# Altium footprint library Connector_PinHeader_2.00mm.PcbLib: 278 footprints (part 5 of 18)
Each footprint in its own frame and in the unit in brackets; x right, y up, seen from the top. Pads: shape width x height; smd on the part's side, far side on the other; paste and mask are expansions set on the pad; w line width, h text height; cw(c..) or ccw(c..) is an arc to the next point about the centre after c.
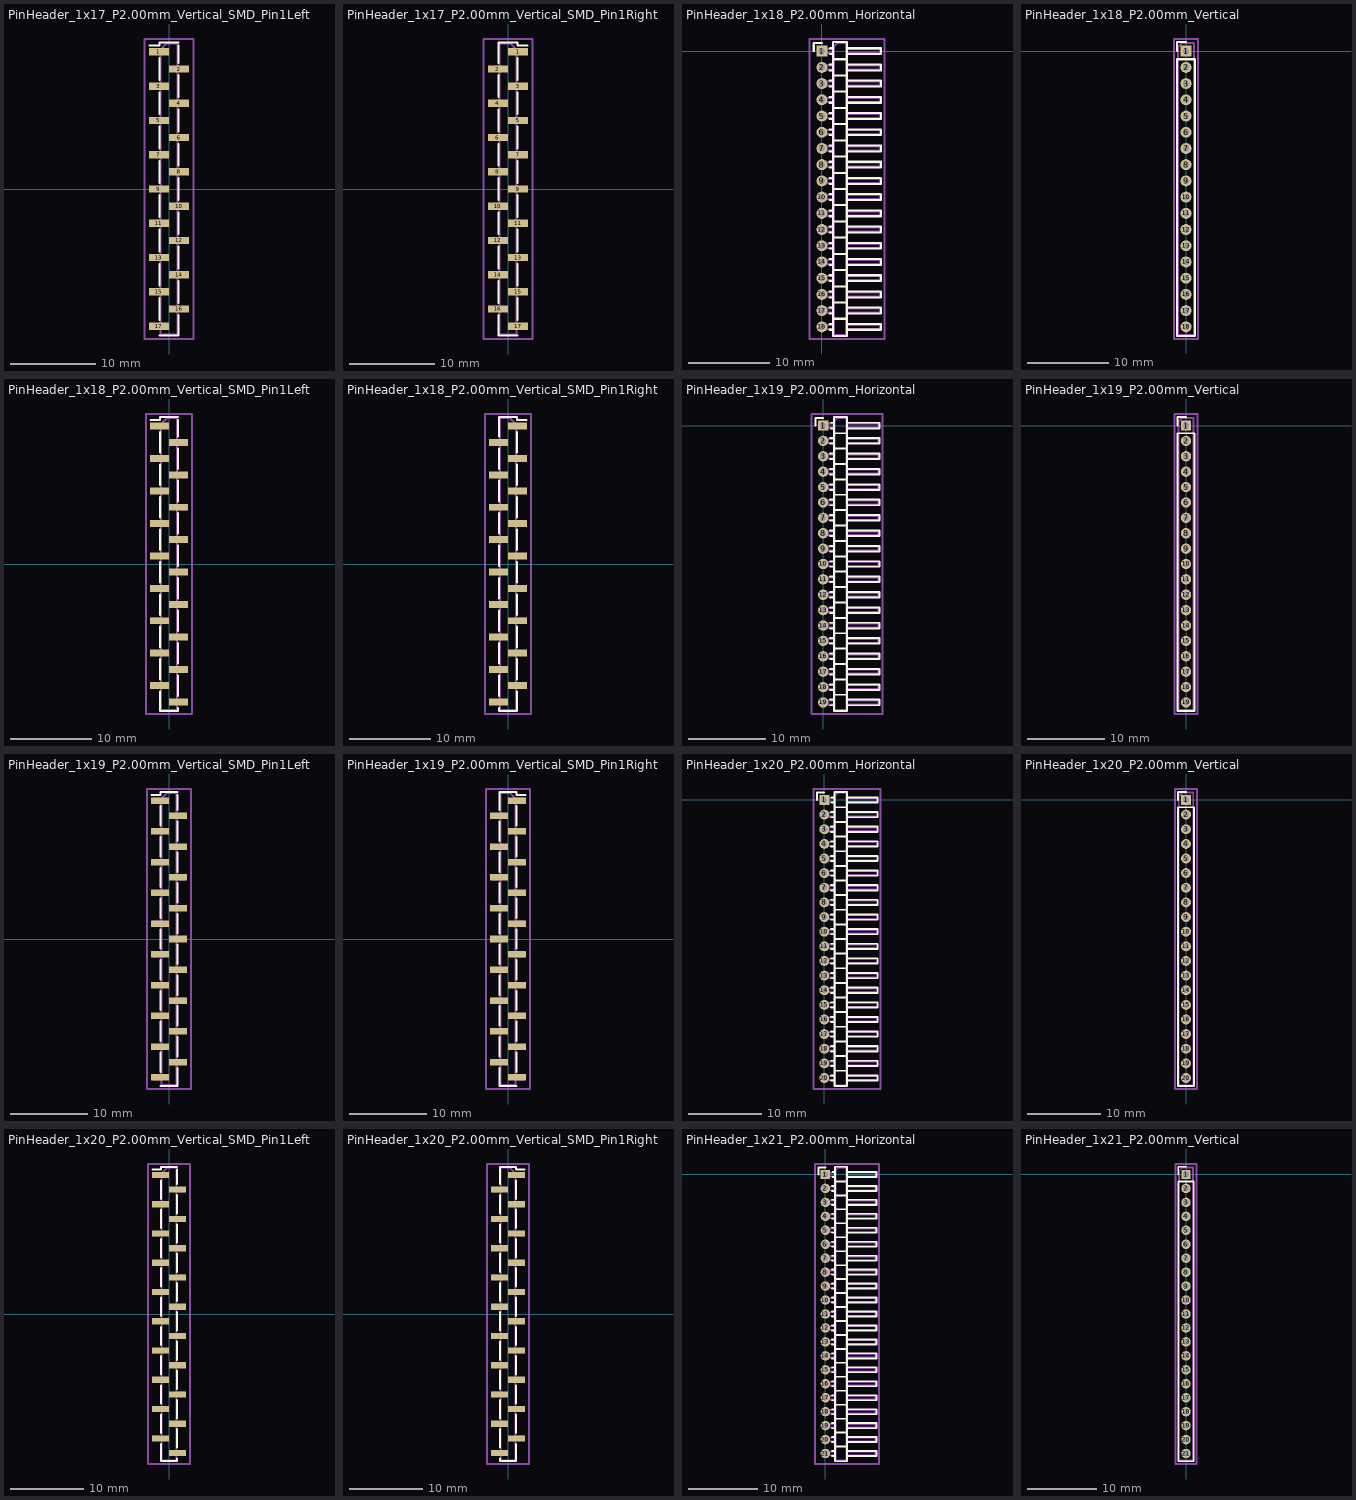
[diagram p4: the footprints below, top view; thin cyan lines are the x and y axes]

## PinHeader_1x17_P2.00mm_Vertical_SMD_Pin1Left [mm]
pads (17):
  rect 2.35x0.85 smd: 1(-1.175,16) 2(1.175,14) 3(-1.175,12) 4(1.175,10) 5(-1.175,8) 6(1.175,6) 7(-1.175,4) 8(1.175,2) 9(-1.175,0) 10(1.175,-2) 11(-1.175,-4) 12(1.175,-6) 13(-1.175,-8) 14(1.175,-10) 15(-1.175,-12) 16(1.175,-14) 17(-1.175,-16)
F.SilkS:
  lines w0.254: -2.29,16.735 -1.11,16.735 -1.11,17.11 1.11,17.11 ; -1.11,-17.11 1.11,-17.11 ; -1.11,-15.265 -1.11,-12.735 ; -1.11,-11.265 -1.11,-8.735 ; -1.11,-7.265 -1.11,-4.735 ; -1.11,-3.265 -1.11,-0.735 ; -1.11,0.735 -1.11,3.265 ; -1.11,4.735 -1.11,7.265 ; -1.11,8.735 -1.11,11.265 ; -1.11,12.735 -1.11,15.265 ; 1.11,-16.735 1.11,-17.11 ; 1.11,-14.735 1.11,-17.11 ; 1.11,-13.265 1.11,-10.735 ; 1.11,-9.265 1.11,-6.735 ; 1.11,-5.265 1.11,-2.735 ; 1.11,-1.265 1.11,1.265 ; 1.11,2.735 1.11,5.265 ; 1.11,6.735 1.11,9.265 ; 1.11,10.735 1.11,13.265 ; 1.11,14.735 1.11,16.735
Top Assembly:
  lines w0.254: -1,-16.25 -2.1,-16.25 -2.1,-15.75 -1,-15.75 ; -1,-12.25 -2.1,-12.25 -2.1,-11.75 -1,-11.75 ; -1,-8.25 -2.1,-8.25 -2.1,-7.75 -1,-7.75 ; -1,-4.25 -2.1,-4.25 -2.1,-3.75 -1,-3.75 ; -1,-0.25 -2.1,-0.25 -2.1,0.25 -1,0.25 ; -1,3.75 -2.1,3.75 -2.1,4.25 -1,4.25 ; -1,7.75 -2.1,7.75 -2.1,8.25 -1,8.25 ; -1,11.75 -2.1,11.75 -2.1,12.25 -1,12.25 ; -1,15.75 -2.1,15.75 -2.1,16.25 -1,16.25 ; 1,-14.25 2.1,-14.25 2.1,-13.75 1,-13.75 ; 1,-10.25 2.1,-10.25 2.1,-9.75 1,-9.75 ; 1,-6.25 2.1,-6.25 2.1,-5.75 1,-5.75 ; 1,-2.25 2.1,-2.25 2.1,-1.75 1,-1.75 ; 1,1.75 2.1,1.75 2.1,2.25 1,2.25 ; 1,5.75 2.1,5.75 2.1,6.25 1,6.25 ; 1,9.75 2.1,9.75 2.1,10.25 1,10.25 ; 1,13.75 2.1,13.75 2.1,14.25 1,14.25 ; -1,16.25 -1,-17 1,-17 1,17 -0.25,17 -1,16.25
  text "'.Designator'" at 0.84,-4.047 h1
Top Courtyard:
  lines w0.254: -2.85,-17.5 2.85,-17.5 2.85,17.5 -2.85,17.5 -2.85,-17.5
Top Designator:
  text ".Designator" at -7.618,-0.508 h1.52

## PinHeader_1x17_P2.00mm_Vertical_SMD_Pin1Right [mm]
pads (17):
  rect 2.35x0.85 smd: 1(1.175,16) 2(-1.175,14) 3(1.175,12) 4(-1.175,10) 5(1.175,8) 6(-1.175,6) 7(1.175,4) 8(-1.175,2) 9(1.175,0) 10(-1.175,-2) 11(1.175,-4) 12(-1.175,-6) 13(1.175,-8) 14(-1.175,-10) 15(1.175,-12) 16(-1.175,-14) 17(1.175,-16)
F.SilkS:
  lines w0.254: -1.11,-16.735 -1.11,-17.11 ; -1.11,-14.735 -1.11,-17.11 ; -1.11,-13.265 -1.11,-10.735 ; -1.11,-9.265 -1.11,-6.735 ; -1.11,-5.265 -1.11,-2.735 ; -1.11,-1.265 -1.11,1.265 ; -1.11,2.735 -1.11,5.265 ; -1.11,6.735 -1.11,9.265 ; -1.11,10.735 -1.11,13.265 ; -1.11,16.735 -1.11,14.735 -1.11,17.11 1.11,17.11 1.11,16.735 2.29,16.735 ; 1.11,-17.11 -1.11,-17.11 ; 1.11,-15.265 1.11,-12.735 ; 1.11,-11.265 1.11,-8.735 ; 1.11,-7.265 1.11,-4.735 ; 1.11,-3.265 1.11,-0.735 ; 1.11,0.735 1.11,3.265 ; 1.11,4.735 1.11,7.265 ; 1.11,8.735 1.11,11.265 ; 1.11,12.735 1.11,15.265
Top Assembly:
  lines w0.254: -1,-14.25 -2.1,-14.25 -2.1,-13.75 -1,-13.75 ; -1,-10.25 -2.1,-10.25 -2.1,-9.75 -1,-9.75 ; -1,-6.25 -2.1,-6.25 -2.1,-5.75 -1,-5.75 ; -1,-2.25 -2.1,-2.25 -2.1,-1.75 -1,-1.75 ; -1,1.75 -2.1,1.75 -2.1,2.25 -1,2.25 ; -1,5.75 -2.1,5.75 -2.1,6.25 -1,6.25 ; -1,9.75 -2.1,9.75 -2.1,10.25 -1,10.25 ; -1,13.75 -2.1,13.75 -2.1,14.25 -1,14.25 ; 1,-16.25 2.1,-16.25 2.1,-15.75 1,-15.75 ; 1,-12.25 2.1,-12.25 2.1,-11.75 1,-11.75 ; 1,-8.25 2.1,-8.25 2.1,-7.75 1,-7.75 ; 1,-4.25 2.1,-4.25 2.1,-3.75 1,-3.75 ; 1,-0.25 2.1,-0.25 2.1,0.25 1,0.25 ; 1,3.75 2.1,3.75 2.1,4.25 1,4.25 ; 1,7.75 2.1,7.75 2.1,8.25 1,8.25 ; 1,11.75 2.1,11.75 2.1,12.25 1,12.25 ; 1,15.75 2.1,15.75 2.1,16.25 1,16.25 ; 1,16.25 1,-17 -1,-17 -1,17 0.25,17 1,16.25
  text "'.Designator'" at 0.84,-4.047 h1
Top Courtyard:
  lines w0.254: -2.85,-17.5 2.85,-17.5 2.85,17.5 -2.85,17.5 -2.85,-17.5
Top Designator:
  text ".Designator" at -7.618,-0.508 h1.52

## PinHeader_1x18_P2.00mm_Horizontal [mm]
pads (18):
  rect 1.35x1.35 hole 0.8: 1(0,0)
  round 1.35 hole 0.8: 2(0,-2) 3(0,-4) 4(0,-6) 5(0,-8) 6(0,-10) 7(0,-12) 8(0,-14) 9(0,-16) 10(0,-18) 11(0,-20) 12(0,-22) 13(0,-24) 14(0,-26) 15(0,-28) 16(0,-30) 17(0,-32) 18(0,-34)
F.SilkS:
  lines w0.254: -1,0 -1,1 0,1 ; 0.917,-34.36 1.39,-34.36 ; 0.917,-33.64 1.39,-33.64 ; 0.917,-32.36 1.39,-32.36 ; 0.917,-31.64 1.39,-31.64 ; 0.917,-30.36 1.39,-30.36 ; 0.917,-29.64 1.39,-29.64 ; 0.917,-28.36 1.39,-28.36 ; 0.917,-27.64 1.39,-27.64 ; 0.917,-26.36 1.39,-26.36 ; 0.917,-25.64 1.39,-25.64 ; 0.917,-24.36 1.39,-24.36 ; 0.917,-23.64 1.39,-23.64 ; 0.917,-22.36 1.39,-22.36 ; 0.917,-21.64 1.39,-21.64 ; 0.917,-20.36 1.39,-20.36 ; 0.917,-19.64 1.39,-19.64 ; 0.917,-18.36 1.39,-18.36 ; 0.917,-17.64 1.39,-17.64 ; 0.917,-16.36 1.39,-16.36 ; 0.917,-15.64 1.39,-15.64 ; 0.917,-14.36 1.39,-14.36 ; 0.917,-13.64 1.39,-13.64 ; 0.917,-12.36 1.39,-12.36 ; 0.917,-11.64 1.39,-11.64 ; 0.917,-10.36 1.39,-10.36 ; 0.917,-9.64 1.39,-9.64 ; 0.917,-8.36 1.39,-8.36 ; 0.917,-7.64 1.39,-7.64 ; 0.917,-6.36 1.39,-6.36 ; 0.917,-5.64 1.39,-5.64 ; 0.917,-4.36 1.39,-4.36 ; 0.917,-3.64 1.39,-3.64 ; 0.917,-2.36 1.39,-2.36 ; 0.917,-1.64 1.39,-1.64 ; 0.985,-0.36 1.39,-0.36 ; 0.985,0.36 1.39,0.36 ; 1.39,-33 3.11,-33 ; 1.39,-31 3.11,-31 ; 1.39,-29 3.11,-29 ; 1.39,-27 3.11,-27 ; 1.39,-25 3.11,-25 ; 1.39,-23 3.11,-23 ; 1.39,-21 3.11,-21 ; 1.39,-19 3.11,-19 ; 1.39,-17 3.11,-17 ; 1.39,-15 3.11,-15 ; 1.39,-13 3.11,-13 ; 1.39,-11 3.11,-11 ; 1.39,-9 3.11,-9 ; 1.39,-7 3.11,-7 ; 1.39,-5 3.11,-5 ; 1.39,-3 3.11,-3 ; 1.39,-1 3.11,-1 ; 3.11,-34.36 7.31,-34.36 7.31,-33.64 3.11,-33.64 ; 3.11,-32.36 7.31,-32.36 7.31,-31.64 3.11,-31.64 ; 3.11,-30.36 7.31,-30.36 7.31,-29.64 3.11,-29.64 ; 3.11,-28.36 7.31,-28.36 7.31,-27.64 3.11,-27.64 ; 3.11,-26.36 7.31,-26.36 7.31,-25.64 3.11,-25.64 ; 3.11,-24.36 7.31,-24.36 7.31,-23.64 3.11,-23.64 ; 3.11,-22.36 7.31,-22.36 7.31,-21.64 3.11,-21.64 ; 3.11,-20.36 7.31,-20.36 7.31,-19.64 3.11,-19.64 ; 3.11,-18.36 7.31,-18.36 7.31,-17.64 3.11,-17.64 ; 3.11,-16.36 7.31,-16.36 7.31,-15.64 3.11,-15.64 ; 3.11,-14.36 7.31,-14.36 7.31,-13.64 3.11,-13.64 ; 3.11,-12.36 7.31,-12.36 7.31,-11.64 3.11,-11.64 ; 3.11,-10.36 7.31,-10.36 7.31,-9.64 3.11,-9.64 ; 3.11,-8.36 7.31,-8.36 7.31,-7.64 3.11,-7.64 ; 3.11,-6.36 7.31,-6.36 7.31,-5.64 3.11,-5.64 ; 3.11,-4.36 7.31,-4.36 7.31,-3.64 3.11,-3.64 ; 3.11,-2.36 7.31,-2.36 7.31,-1.64 3.11,-1.64 ; 1.39,-35.11 3.11,-35.11 3.11,1.11 1.39,1.11 1.39,-35.11 ; 3.11,-0.36 7.31,-0.36 7.31,0.36 3.11,0.36 3.11,-0.36
Top Assembly:
  lines w0.254: 1.5,-34.25 -0.25,-34.25 -0.25,-33.75 1.5,-33.75 ; 1.5,-32.25 -0.25,-32.25 -0.25,-31.75 1.5,-31.75 ; 1.5,-30.25 -0.25,-30.25 -0.25,-29.75 1.5,-29.75 ; 1.5,-28.25 -0.25,-28.25 -0.25,-27.75 1.5,-27.75 ; 1.5,-26.25 -0.25,-26.25 -0.25,-25.75 1.5,-25.75 ; 1.5,-24.25 -0.25,-24.25 -0.25,-23.75 1.5,-23.75 ; 1.5,-22.25 -0.25,-22.25 -0.25,-21.75 1.5,-21.75 ; 1.5,-20.25 -0.25,-20.25 -0.25,-19.75 1.5,-19.75 ; 1.5,-18.25 -0.25,-18.25 -0.25,-17.75 1.5,-17.75 ; 1.5,-16.25 -0.25,-16.25 -0.25,-15.75 1.5,-15.75 ; 1.5,-14.25 -0.25,-14.25 -0.25,-13.75 1.5,-13.75 ; 1.5,-12.25 -0.25,-12.25 -0.25,-11.75 1.5,-11.75 ; 1.5,-10.25 -0.25,-10.25 -0.25,-9.75 1.5,-9.75 ; 1.5,-8.25 -0.25,-8.25 -0.25,-7.75 1.5,-7.75 ; 1.5,-6.25 -0.25,-6.25 -0.25,-5.75 1.5,-5.75 ; 1.5,-4.25 -0.25,-4.25 -0.25,-3.75 1.5,-3.75 ; 1.5,-2.25 -0.25,-2.25 -0.25,-1.75 1.5,-1.75 ; 1.5,-0.25 -0.25,-0.25 -0.25,0.25 1.5,0.25 ; 3,-34.25 7.2,-34.25 7.2,-33.75 3,-33.75 ; 3,-32.25 7.2,-32.25 7.2,-31.75 3,-31.75 ; 3,-30.25 7.2,-30.25 7.2,-29.75 3,-29.75 ; 3,-28.25 7.2,-28.25 7.2,-27.75 3,-27.75 ; 3,-26.25 7.2,-26.25 7.2,-25.75 3,-25.75 ; 3,-24.25 7.2,-24.25 7.2,-23.75 3,-23.75 ; 3,-22.25 7.2,-22.25 7.2,-21.75 3,-21.75 ; 3,-20.25 7.2,-20.25 7.2,-19.75 3,-19.75 ; 3,-18.25 7.2,-18.25 7.2,-17.75 3,-17.75 ; 3,-16.25 7.2,-16.25 7.2,-15.75 3,-15.75 ; 3,-14.25 7.2,-14.25 7.2,-13.75 3,-13.75 ; 3,-12.25 7.2,-12.25 7.2,-11.75 3,-11.75 ; 3,-10.25 7.2,-10.25 7.2,-9.75 3,-9.75 ; 3,-8.25 7.2,-8.25 7.2,-7.75 3,-7.75 ; 3,-6.25 7.2,-6.25 7.2,-5.75 3,-5.75 ; 3,-4.25 7.2,-4.25 7.2,-3.75 3,-3.75 ; 3,-2.25 7.2,-2.25 7.2,-1.75 3,-1.75 ; 3,-0.25 7.2,-0.25 7.2,0.25 3,0.25 ; 1.5,-35 3,-35 3,1 1.875,1 1.5,0.625 1.5,-35
  text "'.Designator'" at 3.006,-20.642 h0.9
Top Courtyard:
  lines w0.254: -1.5,-35.5 7.7,-35.5 7.7,1.5 -1.5,1.5 -1.5,-35.5
Top Designator:
  text ".Designator" at -4.518,-17.508 h1.52

## PinHeader_1x18_P2.00mm_Vertical [mm]
pads (18):
  rect 1.35x1.35 hole 0.8: 1(0,0)
  round 1.35 hole 0.8: 2(0,-2) 3(0,-4) 4(0,-6) 5(0,-8) 6(0,-10) 7(0,-12) 8(0,-14) 9(0,-16) 10(0,-18) 11(0,-20) 12(0,-22) 13(0,-24) 14(0,-26) 15(0,-28) 16(0,-30) 17(0,-32) 18(0,-34)
F.SilkS:
  lines w0.254: -1.11,0 -1.11,1.11 0,1.11 ; -1.11,-35.11 1.11,-35.11 1.11,-1 -1.11,-1 -1.11,-35.11
Top Assembly:
  lines w0.254: -1,-35 1,-35 1,1 -0.5,1 -1,0.5 -1,-35
  text "'.Designator'" at 0.84,-21.047 h1
Top Courtyard:
  lines w0.254: -1.5,-35.5 1.5,-35.5 1.5,1.5 -1.5,1.5 -1.5,-35.5
Top Designator:
  text ".Designator" at -7.618,-17.508 h1.52

## PinHeader_1x18_P2.00mm_Vertical_SMD_Pin1Left [mm]
pads (18):
  rect 2.35x0.85 smd: 1(-1.175,17) 2(1.175,15) 3(-1.175,13) 4(1.175,11) 5(-1.175,9) 6(1.175,7) 7(-1.175,5) 8(1.175,3) 9(-1.175,1) 10(1.175,-1) 11(-1.175,-3) 12(1.175,-5) 13(-1.175,-7) 14(1.175,-9) 15(-1.175,-11) 16(1.175,-13) 17(-1.175,-15) 18(1.175,-17)
F.SilkS:
  lines w0.254: -2.29,17.735 -1.11,17.735 -1.11,18.11 1.11,18.11 ; -1.11,-15.735 -1.11,-18.11 1.11,-18.11 1.11,-17.735 ; -1.11,-14.265 -1.11,-11.735 ; -1.11,-10.265 -1.11,-7.735 ; -1.11,-6.265 -1.11,-3.735 ; -1.11,-2.265 -1.11,0.265 ; -1.11,1.735 -1.11,4.265 ; -1.11,5.735 -1.11,8.265 ; -1.11,9.735 -1.11,12.265 ; -1.11,13.735 -1.11,16.265 ; 1.11,-16.265 1.11,-13.735 ; 1.11,-12.265 1.11,-9.735 ; 1.11,-8.265 1.11,-5.735 ; 1.11,-4.265 1.11,-1.735 ; 1.11,-0.265 1.11,2.265 ; 1.11,3.735 1.11,6.265 ; 1.11,7.735 1.11,10.265 ; 1.11,11.735 1.11,14.265 ; 1.11,15.735 1.11,17.735
Top Assembly:
  lines w0.254: -1,-15.25 -2.1,-15.25 -2.1,-14.75 -1,-14.75 ; -1,-11.25 -2.1,-11.25 -2.1,-10.75 -1,-10.75 ; -1,-7.25 -2.1,-7.25 -2.1,-6.75 -1,-6.75 ; -1,-3.25 -2.1,-3.25 -2.1,-2.75 -1,-2.75 ; -1,0.75 -2.1,0.75 -2.1,1.25 -1,1.25 ; -1,4.75 -2.1,4.75 -2.1,5.25 -1,5.25 ; -1,8.75 -2.1,8.75 -2.1,9.25 -1,9.25 ; -1,12.75 -2.1,12.75 -2.1,13.25 -1,13.25 ; -1,16.75 -2.1,16.75 -2.1,17.25 -1,17.25 ; 1,-17.25 2.1,-17.25 2.1,-16.75 1,-16.75 ; 1,-13.25 2.1,-13.25 2.1,-12.75 1,-12.75 ; 1,-9.25 2.1,-9.25 2.1,-8.75 1,-8.75 ; 1,-5.25 2.1,-5.25 2.1,-4.75 1,-4.75 ; 1,-1.25 2.1,-1.25 2.1,-0.75 1,-0.75 ; 1,2.75 2.1,2.75 2.1,3.25 1,3.25 ; 1,6.75 2.1,6.75 2.1,7.25 1,7.25 ; 1,10.75 2.1,10.75 2.1,11.25 1,11.25 ; 1,14.75 2.1,14.75 2.1,15.25 1,15.25 ; -1,17.25 -1,-18 1,-18 1,18 -0.25,18 -1,17.25
  text "'.Designator'" at 0.84,-4.047 h1
Top Courtyard:
  lines w0.254: -2.85,-18.5 2.85,-18.5 2.85,18.5 -2.85,18.5 -2.85,-18.5
Top Designator:
  text ".Designator" at -7.618,-0.508 h1.52

## PinHeader_1x18_P2.00mm_Vertical_SMD_Pin1Right [mm]
pads (18):
  rect 2.35x0.85 smd: 1(1.175,17) 2(-1.175,15) 3(1.175,13) 4(-1.175,11) 5(1.175,9) 6(-1.175,7) 7(1.175,5) 8(-1.175,3) 9(1.175,1) 10(-1.175,-1) 11(1.175,-3) 12(-1.175,-5) 13(1.175,-7) 14(-1.175,-9) 15(1.175,-11) 16(-1.175,-13) 17(1.175,-15) 18(-1.175,-17)
F.SilkS:
  lines w0.254: -1.11,-17.735 -1.11,-18.11 1.11,-18.11 1.11,-15.735 ; -1.11,-16.265 -1.11,-13.735 ; -1.11,-12.265 -1.11,-9.735 ; -1.11,-8.265 -1.11,-5.735 ; -1.11,-4.265 -1.11,-1.735 ; -1.11,-0.265 -1.11,2.265 ; -1.11,3.735 -1.11,6.265 ; -1.11,7.735 -1.11,10.265 ; -1.11,11.735 -1.11,14.265 ; -1.11,17.735 -1.11,15.735 -1.11,18.11 1.11,18.11 1.11,17.735 2.29,17.735 ; 1.11,-14.265 1.11,-11.735 ; 1.11,-10.265 1.11,-7.735 ; 1.11,-6.265 1.11,-3.735 ; 1.11,-2.265 1.11,0.265 ; 1.11,1.735 1.11,4.265 ; 1.11,5.735 1.11,8.265 ; 1.11,9.735 1.11,12.265 ; 1.11,13.735 1.11,16.265
Top Assembly:
  lines w0.254: -1,-17.25 -2.1,-17.25 -2.1,-16.75 -1,-16.75 ; -1,-13.25 -2.1,-13.25 -2.1,-12.75 -1,-12.75 ; -1,-9.25 -2.1,-9.25 -2.1,-8.75 -1,-8.75 ; -1,-5.25 -2.1,-5.25 -2.1,-4.75 -1,-4.75 ; -1,-1.25 -2.1,-1.25 -2.1,-0.75 -1,-0.75 ; -1,2.75 -2.1,2.75 -2.1,3.25 -1,3.25 ; -1,6.75 -2.1,6.75 -2.1,7.25 -1,7.25 ; -1,10.75 -2.1,10.75 -2.1,11.25 -1,11.25 ; -1,14.75 -2.1,14.75 -2.1,15.25 -1,15.25 ; 1,-15.25 2.1,-15.25 2.1,-14.75 1,-14.75 ; 1,-11.25 2.1,-11.25 2.1,-10.75 1,-10.75 ; 1,-7.25 2.1,-7.25 2.1,-6.75 1,-6.75 ; 1,-3.25 2.1,-3.25 2.1,-2.75 1,-2.75 ; 1,0.75 2.1,0.75 2.1,1.25 1,1.25 ; 1,4.75 2.1,4.75 2.1,5.25 1,5.25 ; 1,8.75 2.1,8.75 2.1,9.25 1,9.25 ; 1,12.75 2.1,12.75 2.1,13.25 1,13.25 ; 1,16.75 2.1,16.75 2.1,17.25 1,17.25 ; 1,17.25 1,-18 -1,-18 -1,18 0.25,18 1,17.25
  text "'.Designator'" at 0.84,-4.047 h1
Top Courtyard:
  lines w0.254: -2.85,-18.5 2.85,-18.5 2.85,18.5 -2.85,18.5 -2.85,-18.5
Top Designator:
  text ".Designator" at -7.618,-0.508 h1.52

## PinHeader_1x19_P2.00mm_Horizontal [mm]
pads (19):
  rect 1.35x1.35 hole 0.8: 1(0,0)
  round 1.35 hole 0.8: 2(0,-2) 3(0,-4) 4(0,-6) 5(0,-8) 6(0,-10) 7(0,-12) 8(0,-14) 9(0,-16) 10(0,-18) 11(0,-20) 12(0,-22) 13(0,-24) 14(0,-26) 15(0,-28) 16(0,-30) 17(0,-32) 18(0,-34) 19(0,-36)
F.SilkS:
  lines w0.254: -1,0 -1,1 0,1 ; 0.917,-36.36 1.39,-36.36 ; 0.917,-35.64 1.39,-35.64 ; 0.917,-34.36 1.39,-34.36 ; 0.917,-33.64 1.39,-33.64 ; 0.917,-32.36 1.39,-32.36 ; 0.917,-31.64 1.39,-31.64 ; 0.917,-30.36 1.39,-30.36 ; 0.917,-29.64 1.39,-29.64 ; 0.917,-28.36 1.39,-28.36 ; 0.917,-27.64 1.39,-27.64 ; 0.917,-26.36 1.39,-26.36 ; 0.917,-25.64 1.39,-25.64 ; 0.917,-24.36 1.39,-24.36 ; 0.917,-23.64 1.39,-23.64 ; 0.917,-22.36 1.39,-22.36 ; 0.917,-21.64 1.39,-21.64 ; 0.917,-20.36 1.39,-20.36 ; 0.917,-19.64 1.39,-19.64 ; 0.917,-18.36 1.39,-18.36 ; 0.917,-17.64 1.39,-17.64 ; 0.917,-16.36 1.39,-16.36 ; 0.917,-15.64 1.39,-15.64 ; 0.917,-14.36 1.39,-14.36 ; 0.917,-13.64 1.39,-13.64 ; 0.917,-12.36 1.39,-12.36 ; 0.917,-11.64 1.39,-11.64 ; 0.917,-10.36 1.39,-10.36 ; 0.917,-9.64 1.39,-9.64 ; 0.917,-8.36 1.39,-8.36 ; 0.917,-7.64 1.39,-7.64 ; 0.917,-6.36 1.39,-6.36 ; 0.917,-5.64 1.39,-5.64 ; 0.917,-4.36 1.39,-4.36 ; 0.917,-3.64 1.39,-3.64 ; 0.917,-2.36 1.39,-2.36 ; 0.917,-1.64 1.39,-1.64 ; 0.985,-0.36 1.39,-0.36 ; 0.985,0.36 1.39,0.36 ; 1.39,-35 3.11,-35 ; 1.39,-33 3.11,-33 ; 1.39,-31 3.11,-31 ; 1.39,-29 3.11,-29 ; 1.39,-27 3.11,-27 ; 1.39,-25 3.11,-25 ; 1.39,-23 3.11,-23 ; 1.39,-21 3.11,-21 ; 1.39,-19 3.11,-19 ; 1.39,-17 3.11,-17 ; 1.39,-15 3.11,-15 ; 1.39,-13 3.11,-13 ; 1.39,-11 3.11,-11 ; 1.39,-9 3.11,-9 ; 1.39,-7 3.11,-7 ; 1.39,-5 3.11,-5 ; 1.39,-3 3.11,-3 ; 1.39,-1 3.11,-1 ; 3.11,-36.36 7.31,-36.36 7.31,-35.64 3.11,-35.64 ; 3.11,-34.36 7.31,-34.36 7.31,-33.64 3.11,-33.64 ; 3.11,-32.36 7.31,-32.36 7.31,-31.64 3.11,-31.64 ; 3.11,-30.36 7.31,-30.36 7.31,-29.64 3.11,-29.64 ; 3.11,-28.36 7.31,-28.36 7.31,-27.64 3.11,-27.64 ; 3.11,-26.36 7.31,-26.36 7.31,-25.64 3.11,-25.64 ; 3.11,-24.36 7.31,-24.36 7.31,-23.64 3.11,-23.64 ; 3.11,-22.36 7.31,-22.36 7.31,-21.64 3.11,-21.64 ; 3.11,-20.36 7.31,-20.36 7.31,-19.64 3.11,-19.64 ; 3.11,-18.36 7.31,-18.36 7.31,-17.64 3.11,-17.64 ; 3.11,-16.36 7.31,-16.36 7.31,-15.64 3.11,-15.64 ; 3.11,-14.36 7.31,-14.36 7.31,-13.64 3.11,-13.64 ; 3.11,-12.36 7.31,-12.36 7.31,-11.64 3.11,-11.64 ; 3.11,-10.36 7.31,-10.36 7.31,-9.64 3.11,-9.64 ; 3.11,-8.36 7.31,-8.36 7.31,-7.64 3.11,-7.64 ; 3.11,-6.36 7.31,-6.36 7.31,-5.64 3.11,-5.64 ; 3.11,-4.36 7.31,-4.36 7.31,-3.64 3.11,-3.64 ; 3.11,-2.36 7.31,-2.36 7.31,-1.64 3.11,-1.64 ; 1.39,-37.11 3.11,-37.11 3.11,1.11 1.39,1.11 1.39,-37.11 ; 3.11,-0.36 7.31,-0.36 7.31,0.36 3.11,0.36 3.11,-0.36
Top Assembly:
  lines w0.254: 1.5,-36.25 -0.25,-36.25 -0.25,-35.75 1.5,-35.75 ; 1.5,-34.25 -0.25,-34.25 -0.25,-33.75 1.5,-33.75 ; 1.5,-32.25 -0.25,-32.25 -0.25,-31.75 1.5,-31.75 ; 1.5,-30.25 -0.25,-30.25 -0.25,-29.75 1.5,-29.75 ; 1.5,-28.25 -0.25,-28.25 -0.25,-27.75 1.5,-27.75 ; 1.5,-26.25 -0.25,-26.25 -0.25,-25.75 1.5,-25.75 ; 1.5,-24.25 -0.25,-24.25 -0.25,-23.75 1.5,-23.75 ; 1.5,-22.25 -0.25,-22.25 -0.25,-21.75 1.5,-21.75 ; 1.5,-20.25 -0.25,-20.25 -0.25,-19.75 1.5,-19.75 ; 1.5,-18.25 -0.25,-18.25 -0.25,-17.75 1.5,-17.75 ; 1.5,-16.25 -0.25,-16.25 -0.25,-15.75 1.5,-15.75 ; 1.5,-14.25 -0.25,-14.25 -0.25,-13.75 1.5,-13.75 ; 1.5,-12.25 -0.25,-12.25 -0.25,-11.75 1.5,-11.75 ; 1.5,-10.25 -0.25,-10.25 -0.25,-9.75 1.5,-9.75 ; 1.5,-8.25 -0.25,-8.25 -0.25,-7.75 1.5,-7.75 ; 1.5,-6.25 -0.25,-6.25 -0.25,-5.75 1.5,-5.75 ; 1.5,-4.25 -0.25,-4.25 -0.25,-3.75 1.5,-3.75 ; 1.5,-2.25 -0.25,-2.25 -0.25,-1.75 1.5,-1.75 ; 1.5,-0.25 -0.25,-0.25 -0.25,0.25 1.5,0.25 ; 3,-36.25 7.2,-36.25 7.2,-35.75 3,-35.75 ; 3,-34.25 7.2,-34.25 7.2,-33.75 3,-33.75 ; 3,-32.25 7.2,-32.25 7.2,-31.75 3,-31.75 ; 3,-30.25 7.2,-30.25 7.2,-29.75 3,-29.75 ; 3,-28.25 7.2,-28.25 7.2,-27.75 3,-27.75 ; 3,-26.25 7.2,-26.25 7.2,-25.75 3,-25.75 ; 3,-24.25 7.2,-24.25 7.2,-23.75 3,-23.75 ; 3,-22.25 7.2,-22.25 7.2,-21.75 3,-21.75 ; 3,-20.25 7.2,-20.25 7.2,-19.75 3,-19.75 ; 3,-18.25 7.2,-18.25 7.2,-17.75 3,-17.75 ; 3,-16.25 7.2,-16.25 7.2,-15.75 3,-15.75 ; 3,-14.25 7.2,-14.25 7.2,-13.75 3,-13.75 ; 3,-12.25 7.2,-12.25 7.2,-11.75 3,-11.75 ; 3,-10.25 7.2,-10.25 7.2,-9.75 3,-9.75 ; 3,-8.25 7.2,-8.25 7.2,-7.75 3,-7.75 ; 3,-6.25 7.2,-6.25 7.2,-5.75 3,-5.75 ; 3,-4.25 7.2,-4.25 7.2,-3.75 3,-3.75 ; 3,-2.25 7.2,-2.25 7.2,-1.75 3,-1.75 ; 3,-0.25 7.2,-0.25 7.2,0.25 3,0.25 ; 1.5,-37 3,-37 3,1 1.875,1 1.5,0.625 1.5,-37
  text "'.Designator'" at 3.006,-21.642 h0.9
Top Courtyard:
  lines w0.254: -1.5,-37.5 7.7,-37.5 7.7,1.5 -1.5,1.5 -1.5,-37.5
Top Designator:
  text ".Designator" at -4.518,-18.508 h1.52

## PinHeader_1x19_P2.00mm_Vertical [mm]
pads (19):
  rect 1.35x1.35 hole 0.8: 1(0,0)
  round 1.35 hole 0.8: 2(0,-2) 3(0,-4) 4(0,-6) 5(0,-8) 6(0,-10) 7(0,-12) 8(0,-14) 9(0,-16) 10(0,-18) 11(0,-20) 12(0,-22) 13(0,-24) 14(0,-26) 15(0,-28) 16(0,-30) 17(0,-32) 18(0,-34) 19(0,-36)
F.SilkS:
  lines w0.254: -1.11,0 -1.11,1.11 0,1.11 ; -1.11,-37.11 1.11,-37.11 1.11,-1 -1.11,-1 -1.11,-37.11
Top Assembly:
  lines w0.254: -1,-37 1,-37 1,1 -0.5,1 -1,0.5 -1,-37
  text "'.Designator'" at 0.84,-22.047 h1
Top Courtyard:
  lines w0.254: -1.5,-37.5 1.5,-37.5 1.5,1.5 -1.5,1.5 -1.5,-37.5
Top Designator:
  text ".Designator" at -7.618,-18.508 h1.52

## PinHeader_1x19_P2.00mm_Vertical_SMD_Pin1Left [mm]
pads (19):
  rect 2.35x0.85 smd: 1(-1.175,18) 2(1.175,16) 3(-1.175,14) 4(1.175,12) 5(-1.175,10) 6(1.175,8) 7(-1.175,6) 8(1.175,4) 9(-1.175,2) 10(1.175,0) 11(-1.175,-2) 12(1.175,-4) 13(-1.175,-6) 14(1.175,-8) 15(-1.175,-10) 16(1.175,-12) 17(-1.175,-14) 18(1.175,-16) 19(-1.175,-18)
F.SilkS:
  lines w0.254: -2.29,18.735 -1.11,18.735 -1.11,19.11 1.11,19.11 ; -1.11,-19.11 1.11,-19.11 ; -1.11,-17.265 -1.11,-14.735 ; -1.11,-13.265 -1.11,-10.735 ; -1.11,-9.265 -1.11,-6.735 ; -1.11,-5.265 -1.11,-2.735 ; -1.11,-1.265 -1.11,1.265 ; -1.11,2.735 -1.11,5.265 ; -1.11,6.735 -1.11,9.265 ; -1.11,10.735 -1.11,13.265 ; -1.11,14.735 -1.11,17.265 ; 1.11,-18.735 1.11,-19.11 ; 1.11,-16.735 1.11,-19.11 ; 1.11,-15.265 1.11,-12.735 ; 1.11,-11.265 1.11,-8.735 ; 1.11,-7.265 1.11,-4.735 ; 1.11,-3.265 1.11,-0.735 ; 1.11,0.735 1.11,3.265 ; 1.11,4.735 1.11,7.265 ; 1.11,8.735 1.11,11.265 ; 1.11,12.735 1.11,15.265 ; 1.11,16.735 1.11,18.735
Top Assembly:
  lines w0.254: -1,-18.25 -2.1,-18.25 -2.1,-17.75 -1,-17.75 ; -1,-14.25 -2.1,-14.25 -2.1,-13.75 -1,-13.75 ; -1,-10.25 -2.1,-10.25 -2.1,-9.75 -1,-9.75 ; -1,-6.25 -2.1,-6.25 -2.1,-5.75 -1,-5.75 ; -1,-2.25 -2.1,-2.25 -2.1,-1.75 -1,-1.75 ; -1,1.75 -2.1,1.75 -2.1,2.25 -1,2.25 ; -1,5.75 -2.1,5.75 -2.1,6.25 -1,6.25 ; -1,9.75 -2.1,9.75 -2.1,10.25 -1,10.25 ; -1,13.75 -2.1,13.75 -2.1,14.25 -1,14.25 ; -1,17.75 -2.1,17.75 -2.1,18.25 -1,18.25 ; 1,-16.25 2.1,-16.25 2.1,-15.75 1,-15.75 ; 1,-12.25 2.1,-12.25 2.1,-11.75 1,-11.75 ; 1,-8.25 2.1,-8.25 2.1,-7.75 1,-7.75 ; 1,-4.25 2.1,-4.25 2.1,-3.75 1,-3.75 ; 1,-0.25 2.1,-0.25 2.1,0.25 1,0.25 ; 1,3.75 2.1,3.75 2.1,4.25 1,4.25 ; 1,7.75 2.1,7.75 2.1,8.25 1,8.25 ; 1,11.75 2.1,11.75 2.1,12.25 1,12.25 ; 1,15.75 2.1,15.75 2.1,16.25 1,16.25 ; -1,18.25 -1,-19 1,-19 1,19 -0.25,19 -1,18.25
  text "'.Designator'" at 0.84,-4.047 h1
Top Courtyard:
  lines w0.254: -2.85,-19.5 2.85,-19.5 2.85,19.5 -2.85,19.5 -2.85,-19.5
Top Designator:
  text ".Designator" at -7.618,-0.508 h1.52

## PinHeader_1x19_P2.00mm_Vertical_SMD_Pin1Right [mm]
pads (19):
  rect 2.35x0.85 smd: 1(1.175,18) 2(-1.175,16) 3(1.175,14) 4(-1.175,12) 5(1.175,10) 6(-1.175,8) 7(1.175,6) 8(-1.175,4) 9(1.175,2) 10(-1.175,0) 11(1.175,-2) 12(-1.175,-4) 13(1.175,-6) 14(-1.175,-8) 15(1.175,-10) 16(-1.175,-12) 17(1.175,-14) 18(-1.175,-16) 19(1.175,-18)
F.SilkS:
  lines w0.254: -1.11,-18.735 -1.11,-19.11 ; -1.11,-16.735 -1.11,-19.11 ; -1.11,-15.265 -1.11,-12.735 ; -1.11,-11.265 -1.11,-8.735 ; -1.11,-7.265 -1.11,-4.735 ; -1.11,-3.265 -1.11,-0.735 ; -1.11,0.735 -1.11,3.265 ; -1.11,4.735 -1.11,7.265 ; -1.11,8.735 -1.11,11.265 ; -1.11,12.735 -1.11,15.265 ; -1.11,18.735 -1.11,16.735 -1.11,19.11 1.11,19.11 1.11,18.735 2.29,18.735 ; 1.11,-19.11 -1.11,-19.11 ; 1.11,-17.265 1.11,-14.735 ; 1.11,-13.265 1.11,-10.735 ; 1.11,-9.265 1.11,-6.735 ; 1.11,-5.265 1.11,-2.735 ; 1.11,-1.265 1.11,1.265 ; 1.11,2.735 1.11,5.265 ; 1.11,6.735 1.11,9.265 ; 1.11,10.735 1.11,13.265 ; 1.11,14.735 1.11,17.265
Top Assembly:
  lines w0.254: -1,-16.25 -2.1,-16.25 -2.1,-15.75 -1,-15.75 ; -1,-12.25 -2.1,-12.25 -2.1,-11.75 -1,-11.75 ; -1,-8.25 -2.1,-8.25 -2.1,-7.75 -1,-7.75 ; -1,-4.25 -2.1,-4.25 -2.1,-3.75 -1,-3.75 ; -1,-0.25 -2.1,-0.25 -2.1,0.25 -1,0.25 ; -1,3.75 -2.1,3.75 -2.1,4.25 -1,4.25 ; -1,7.75 -2.1,7.75 -2.1,8.25 -1,8.25 ; -1,11.75 -2.1,11.75 -2.1,12.25 -1,12.25 ; -1,15.75 -2.1,15.75 -2.1,16.25 -1,16.25 ; 1,-18.25 2.1,-18.25 2.1,-17.75 1,-17.75 ; 1,-14.25 2.1,-14.25 2.1,-13.75 1,-13.75 ; 1,-10.25 2.1,-10.25 2.1,-9.75 1,-9.75 ; 1,-6.25 2.1,-6.25 2.1,-5.75 1,-5.75 ; 1,-2.25 2.1,-2.25 2.1,-1.75 1,-1.75 ; 1,1.75 2.1,1.75 2.1,2.25 1,2.25 ; 1,5.75 2.1,5.75 2.1,6.25 1,6.25 ; 1,9.75 2.1,9.75 2.1,10.25 1,10.25 ; 1,13.75 2.1,13.75 2.1,14.25 1,14.25 ; 1,17.75 2.1,17.75 2.1,18.25 1,18.25 ; 1,18.25 1,-19 -1,-19 -1,19 0.25,19 1,18.25
  text "'.Designator'" at 0.84,-4.047 h1
Top Courtyard:
  lines w0.254: -2.85,-19.5 2.85,-19.5 2.85,19.5 -2.85,19.5 -2.85,-19.5
Top Designator:
  text ".Designator" at -7.618,-0.508 h1.52

## PinHeader_1x20_P2.00mm_Horizontal [mm]
pads (20):
  rect 1.35x1.35 hole 0.8: 1(0,0)
  round 1.35 hole 0.8: 2(0,-2) 3(0,-4) 4(0,-6) 5(0,-8) 6(0,-10) 7(0,-12) 8(0,-14) 9(0,-16) 10(0,-18) 11(0,-20) 12(0,-22) 13(0,-24) 14(0,-26) 15(0,-28) 16(0,-30) 17(0,-32) 18(0,-34) 19(0,-36) 20(0,-38)
F.SilkS:
  lines w0.254: -1,0 -1,1 0,1 ; 0.917,-38.36 1.39,-38.36 ; 0.917,-37.64 1.39,-37.64 ; 0.917,-36.36 1.39,-36.36 ; 0.917,-35.64 1.39,-35.64 ; 0.917,-34.36 1.39,-34.36 ; 0.917,-33.64 1.39,-33.64 ; 0.917,-32.36 1.39,-32.36 ; 0.917,-31.64 1.39,-31.64 ; 0.917,-30.36 1.39,-30.36 ; 0.917,-29.64 1.39,-29.64 ; 0.917,-28.36 1.39,-28.36 ; 0.917,-27.64 1.39,-27.64 ; 0.917,-26.36 1.39,-26.36 ; 0.917,-25.64 1.39,-25.64 ; 0.917,-24.36 1.39,-24.36 ; 0.917,-23.64 1.39,-23.64 ; 0.917,-22.36 1.39,-22.36 ; 0.917,-21.64 1.39,-21.64 ; 0.917,-20.36 1.39,-20.36 ; 0.917,-19.64 1.39,-19.64 ; 0.917,-18.36 1.39,-18.36 ; 0.917,-17.64 1.39,-17.64 ; 0.917,-16.36 1.39,-16.36 ; 0.917,-15.64 1.39,-15.64 ; 0.917,-14.36 1.39,-14.36 ; 0.917,-13.64 1.39,-13.64 ; 0.917,-12.36 1.39,-12.36 ; 0.917,-11.64 1.39,-11.64 ; 0.917,-10.36 1.39,-10.36 ; 0.917,-9.64 1.39,-9.64 ; 0.917,-8.36 1.39,-8.36 ; 0.917,-7.64 1.39,-7.64 ; 0.917,-6.36 1.39,-6.36 ; 0.917,-5.64 1.39,-5.64 ; 0.917,-4.36 1.39,-4.36 ; 0.917,-3.64 1.39,-3.64 ; 0.917,-2.36 1.39,-2.36 ; 0.917,-1.64 1.39,-1.64 ; 0.985,-0.36 1.39,-0.36 ; 0.985,0.36 1.39,0.36 ; 1.39,-37 3.11,-37 ; 1.39,-35 3.11,-35 ; 1.39,-33 3.11,-33 ; 1.39,-31 3.11,-31 ; 1.39,-29 3.11,-29 ; 1.39,-27 3.11,-27 ; 1.39,-25 3.11,-25 ; 1.39,-23 3.11,-23 ; 1.39,-21 3.11,-21 ; 1.39,-19 3.11,-19 ; 1.39,-17 3.11,-17 ; 1.39,-15 3.11,-15 ; 1.39,-13 3.11,-13 ; 1.39,-11 3.11,-11 ; 1.39,-9 3.11,-9 ; 1.39,-7 3.11,-7 ; 1.39,-5 3.11,-5 ; 1.39,-3 3.11,-3 ; 1.39,-1 3.11,-1 ; 3.11,-38.36 7.31,-38.36 7.31,-37.64 3.11,-37.64 ; 3.11,-36.36 7.31,-36.36 7.31,-35.64 3.11,-35.64 ; 3.11,-34.36 7.31,-34.36 7.31,-33.64 3.11,-33.64 ; 3.11,-32.36 7.31,-32.36 7.31,-31.64 3.11,-31.64 ; 3.11,-30.36 7.31,-30.36 7.31,-29.64 3.11,-29.64 ; 3.11,-28.36 7.31,-28.36 7.31,-27.64 3.11,-27.64 ; 3.11,-26.36 7.31,-26.36 7.31,-25.64 3.11,-25.64 ; 3.11,-24.36 7.31,-24.36 7.31,-23.64 3.11,-23.64 ; 3.11,-22.36 7.31,-22.36 7.31,-21.64 3.11,-21.64 ; 3.11,-20.36 7.31,-20.36 7.31,-19.64 3.11,-19.64 ; 3.11,-18.36 7.31,-18.36 7.31,-17.64 3.11,-17.64 ; 3.11,-16.36 7.31,-16.36 7.31,-15.64 3.11,-15.64 ; 3.11,-14.36 7.31,-14.36 7.31,-13.64 3.11,-13.64 ; 3.11,-12.36 7.31,-12.36 7.31,-11.64 3.11,-11.64 ; 3.11,-10.36 7.31,-10.36 7.31,-9.64 3.11,-9.64 ; 3.11,-8.36 7.31,-8.36 7.31,-7.64 3.11,-7.64 ; 3.11,-6.36 7.31,-6.36 7.31,-5.64 3.11,-5.64 ; 3.11,-4.36 7.31,-4.36 7.31,-3.64 3.11,-3.64 ; 3.11,-2.36 7.31,-2.36 7.31,-1.64 3.11,-1.64 ; 1.39,-39.11 3.11,-39.11 3.11,1.11 1.39,1.11 1.39,-39.11 ; 3.11,-0.36 7.31,-0.36 7.31,0.36 3.11,0.36 3.11,-0.36
Top Assembly:
  lines w0.254: 1.5,-38.25 -0.25,-38.25 -0.25,-37.75 1.5,-37.75 ; 1.5,-36.25 -0.25,-36.25 -0.25,-35.75 1.5,-35.75 ; 1.5,-34.25 -0.25,-34.25 -0.25,-33.75 1.5,-33.75 ; 1.5,-32.25 -0.25,-32.25 -0.25,-31.75 1.5,-31.75 ; 1.5,-30.25 -0.25,-30.25 -0.25,-29.75 1.5,-29.75 ; 1.5,-28.25 -0.25,-28.25 -0.25,-27.75 1.5,-27.75 ; 1.5,-26.25 -0.25,-26.25 -0.25,-25.75 1.5,-25.75 ; 1.5,-24.25 -0.25,-24.25 -0.25,-23.75 1.5,-23.75 ; 1.5,-22.25 -0.25,-22.25 -0.25,-21.75 1.5,-21.75 ; 1.5,-20.25 -0.25,-20.25 -0.25,-19.75 1.5,-19.75 ; 1.5,-18.25 -0.25,-18.25 -0.25,-17.75 1.5,-17.75 ; 1.5,-16.25 -0.25,-16.25 -0.25,-15.75 1.5,-15.75 ; 1.5,-14.25 -0.25,-14.25 -0.25,-13.75 1.5,-13.75 ; 1.5,-12.25 -0.25,-12.25 -0.25,-11.75 1.5,-11.75 ; 1.5,-10.25 -0.25,-10.25 -0.25,-9.75 1.5,-9.75 ; 1.5,-8.25 -0.25,-8.25 -0.25,-7.75 1.5,-7.75 ; 1.5,-6.25 -0.25,-6.25 -0.25,-5.75 1.5,-5.75 ; 1.5,-4.25 -0.25,-4.25 -0.25,-3.75 1.5,-3.75 ; 1.5,-2.25 -0.25,-2.25 -0.25,-1.75 1.5,-1.75 ; 1.5,-0.25 -0.25,-0.25 -0.25,0.25 1.5,0.25 ; 3,-38.25 7.2,-38.25 7.2,-37.75 3,-37.75 ; 3,-36.25 7.2,-36.25 7.2,-35.75 3,-35.75 ; 3,-34.25 7.2,-34.25 7.2,-33.75 3,-33.75 ; 3,-32.25 7.2,-32.25 7.2,-31.75 3,-31.75 ; 3,-30.25 7.2,-30.25 7.2,-29.75 3,-29.75 ; 3,-28.25 7.2,-28.25 7.2,-27.75 3,-27.75 ; 3,-26.25 7.2,-26.25 7.2,-25.75 3,-25.75 ; 3,-24.25 7.2,-24.25 7.2,-23.75 3,-23.75 ; 3,-22.25 7.2,-22.25 7.2,-21.75 3,-21.75 ; 3,-20.25 7.2,-20.25 7.2,-19.75 3,-19.75 ; 3,-18.25 7.2,-18.25 7.2,-17.75 3,-17.75 ; 3,-16.25 7.2,-16.25 7.2,-15.75 3,-15.75 ; 3,-14.25 7.2,-14.25 7.2,-13.75 3,-13.75 ; 3,-12.25 7.2,-12.25 7.2,-11.75 3,-11.75 ; 3,-10.25 7.2,-10.25 7.2,-9.75 3,-9.75 ; 3,-8.25 7.2,-8.25 7.2,-7.75 3,-7.75 ; 3,-6.25 7.2,-6.25 7.2,-5.75 3,-5.75 ; 3,-4.25 7.2,-4.25 7.2,-3.75 3,-3.75 ; 3,-2.25 7.2,-2.25 7.2,-1.75 3,-1.75 ; 3,-0.25 7.2,-0.25 7.2,0.25 3,0.25 ; 1.5,-39 3,-39 3,1 1.875,1 1.5,0.625 1.5,-39
  text "'.Designator'" at 3.006,-22.642 h0.9
Top Courtyard:
  lines w0.254: -1.5,-39.5 7.7,-39.5 7.7,1.5 -1.5,1.5 -1.5,-39.5
Top Designator:
  text ".Designator" at -4.518,-19.508 h1.52

## PinHeader_1x20_P2.00mm_Vertical [mm]
pads (20):
  rect 1.35x1.35 hole 0.8: 1(0,0)
  round 1.35 hole 0.8: 2(0,-2) 3(0,-4) 4(0,-6) 5(0,-8) 6(0,-10) 7(0,-12) 8(0,-14) 9(0,-16) 10(0,-18) 11(0,-20) 12(0,-22) 13(0,-24) 14(0,-26) 15(0,-28) 16(0,-30) 17(0,-32) 18(0,-34) 19(0,-36) 20(0,-38)
F.SilkS:
  lines w0.254: -1.11,0 -1.11,1.11 0,1.11 ; -1.11,-39.11 1.11,-39.11 1.11,-1 -1.11,-1 -1.11,-39.11
Top Assembly:
  lines w0.254: -1,-39 1,-39 1,1 -0.5,1 -1,0.5 -1,-39
  text "'.Designator'" at 0.84,-23.047 h1
Top Courtyard:
  lines w0.254: -1.5,-39.5 1.5,-39.5 1.5,1.5 -1.5,1.5 -1.5,-39.5
Top Designator:
  text ".Designator" at -7.618,-19.508 h1.52

## PinHeader_1x20_P2.00mm_Vertical_SMD_Pin1Left [mm]
pads (20):
  rect 2.35x0.85 smd: 1(-1.175,19) 2(1.175,17) 3(-1.175,15) 4(1.175,13) 5(-1.175,11) 6(1.175,9) 7(-1.175,7) 8(1.175,5) 9(-1.175,3) 10(1.175,1) 11(-1.175,-1) 12(1.175,-3) 13(-1.175,-5) 14(1.175,-7) 15(-1.175,-9) 16(1.175,-11) 17(-1.175,-13) 18(1.175,-15) 19(-1.175,-17) 20(1.175,-19)
F.SilkS:
  lines w0.254: -2.29,19.735 -1.11,19.735 -1.11,20.11 1.11,20.11 ; -1.11,-17.735 -1.11,-20.11 1.11,-20.11 1.11,-19.735 ; -1.11,-16.265 -1.11,-13.735 ; -1.11,-12.265 -1.11,-9.735 ; -1.11,-8.265 -1.11,-5.735 ; -1.11,-4.265 -1.11,-1.735 ; -1.11,-0.265 -1.11,2.265 ; -1.11,3.735 -1.11,6.265 ; -1.11,7.735 -1.11,10.265 ; -1.11,11.735 -1.11,14.265 ; -1.11,15.735 -1.11,18.265 ; 1.11,-18.265 1.11,-15.735 ; 1.11,-14.265 1.11,-11.735 ; 1.11,-10.265 1.11,-7.735 ; 1.11,-6.265 1.11,-3.735 ; 1.11,-2.265 1.11,0.265 ; 1.11,1.735 1.11,4.265 ; 1.11,5.735 1.11,8.265 ; 1.11,9.735 1.11,12.265 ; 1.11,13.735 1.11,16.265 ; 1.11,17.735 1.11,19.735
Top Assembly:
  lines w0.254: -1,-17.25 -2.1,-17.25 -2.1,-16.75 -1,-16.75 ; -1,-13.25 -2.1,-13.25 -2.1,-12.75 -1,-12.75 ; -1,-9.25 -2.1,-9.25 -2.1,-8.75 -1,-8.75 ; -1,-5.25 -2.1,-5.25 -2.1,-4.75 -1,-4.75 ; -1,-1.25 -2.1,-1.25 -2.1,-0.75 -1,-0.75 ; -1,2.75 -2.1,2.75 -2.1,3.25 -1,3.25 ; -1,6.75 -2.1,6.75 -2.1,7.25 -1,7.25 ; -1,10.75 -2.1,10.75 -2.1,11.25 -1,11.25 ; -1,14.75 -2.1,14.75 -2.1,15.25 -1,15.25 ; -1,18.75 -2.1,18.75 -2.1,19.25 -1,19.25 ; 1,-19.25 2.1,-19.25 2.1,-18.75 1,-18.75 ; 1,-15.25 2.1,-15.25 2.1,-14.75 1,-14.75 ; 1,-11.25 2.1,-11.25 2.1,-10.75 1,-10.75 ; 1,-7.25 2.1,-7.25 2.1,-6.75 1,-6.75 ; 1,-3.25 2.1,-3.25 2.1,-2.75 1,-2.75 ; 1,0.75 2.1,0.75 2.1,1.25 1,1.25 ; 1,4.75 2.1,4.75 2.1,5.25 1,5.25 ; 1,8.75 2.1,8.75 2.1,9.25 1,9.25 ; 1,12.75 2.1,12.75 2.1,13.25 1,13.25 ; 1,16.75 2.1,16.75 2.1,17.25 1,17.25 ; -1,19.25 -1,-20 1,-20 1,20 -0.25,20 -1,19.25
  text "'.Designator'" at 0.84,-4.047 h1
Top Courtyard:
  lines w0.254: -2.85,-20.5 2.85,-20.5 2.85,20.5 -2.85,20.5 -2.85,-20.5
Top Designator:
  text ".Designator" at -7.618,-0.508 h1.52

## PinHeader_1x20_P2.00mm_Vertical_SMD_Pin1Right [mm]
pads (20):
  rect 2.35x0.85 smd: 1(1.175,19) 2(-1.175,17) 3(1.175,15) 4(-1.175,13) 5(1.175,11) 6(-1.175,9) 7(1.175,7) 8(-1.175,5) 9(1.175,3) 10(-1.175,1) 11(1.175,-1) 12(-1.175,-3) 13(1.175,-5) 14(-1.175,-7) 15(1.175,-9) 16(-1.175,-11) 17(1.175,-13) 18(-1.175,-15) 19(1.175,-17) 20(-1.175,-19)
F.SilkS:
  lines w0.254: -1.11,-19.735 -1.11,-20.11 1.11,-20.11 1.11,-17.735 ; -1.11,-18.265 -1.11,-15.735 ; -1.11,-14.265 -1.11,-11.735 ; -1.11,-10.265 -1.11,-7.735 ; -1.11,-6.265 -1.11,-3.735 ; -1.11,-2.265 -1.11,0.265 ; -1.11,1.735 -1.11,4.265 ; -1.11,5.735 -1.11,8.265 ; -1.11,9.735 -1.11,12.265 ; -1.11,13.735 -1.11,16.265 ; -1.11,19.735 -1.11,17.735 -1.11,20.11 1.11,20.11 1.11,19.735 2.29,19.735 ; 1.11,-16.265 1.11,-13.735 ; 1.11,-12.265 1.11,-9.735 ; 1.11,-8.265 1.11,-5.735 ; 1.11,-4.265 1.11,-1.735 ; 1.11,-0.265 1.11,2.265 ; 1.11,3.735 1.11,6.265 ; 1.11,7.735 1.11,10.265 ; 1.11,11.735 1.11,14.265 ; 1.11,15.735 1.11,18.265
Top Assembly:
  lines w0.254: -1,-19.25 -2.1,-19.25 -2.1,-18.75 -1,-18.75 ; -1,-15.25 -2.1,-15.25 -2.1,-14.75 -1,-14.75 ; -1,-11.25 -2.1,-11.25 -2.1,-10.75 -1,-10.75 ; -1,-7.25 -2.1,-7.25 -2.1,-6.75 -1,-6.75 ; -1,-3.25 -2.1,-3.25 -2.1,-2.75 -1,-2.75 ; -1,0.75 -2.1,0.75 -2.1,1.25 -1,1.25 ; -1,4.75 -2.1,4.75 -2.1,5.25 -1,5.25 ; -1,8.75 -2.1,8.75 -2.1,9.25 -1,9.25 ; -1,12.75 -2.1,12.75 -2.1,13.25 -1,13.25 ; -1,16.75 -2.1,16.75 -2.1,17.25 -1,17.25 ; 1,-17.25 2.1,-17.25 2.1,-16.75 1,-16.75 ; 1,-13.25 2.1,-13.25 2.1,-12.75 1,-12.75 ; 1,-9.25 2.1,-9.25 2.1,-8.75 1,-8.75 ; 1,-5.25 2.1,-5.25 2.1,-4.75 1,-4.75 ; 1,-1.25 2.1,-1.25 2.1,-0.75 1,-0.75 ; 1,2.75 2.1,2.75 2.1,3.25 1,3.25 ; 1,6.75 2.1,6.75 2.1,7.25 1,7.25 ; 1,10.75 2.1,10.75 2.1,11.25 1,11.25 ; 1,14.75 2.1,14.75 2.1,15.25 1,15.25 ; 1,18.75 2.1,18.75 2.1,19.25 1,19.25 ; 1,19.25 1,-20 -1,-20 -1,20 0.25,20 1,19.25
  text "'.Designator'" at 0.84,-4.047 h1
Top Courtyard:
  lines w0.254: -2.85,-20.5 2.85,-20.5 2.85,20.5 -2.85,20.5 -2.85,-20.5
Top Designator:
  text ".Designator" at -7.618,-0.508 h1.52

## PinHeader_1x21_P2.00mm_Horizontal [mm]
pads (21):
  rect 1.35x1.35 hole 0.8: 1(0,0)
  round 1.35 hole 0.8: 2(0,-2) 3(0,-4) 4(0,-6) 5(0,-8) 6(0,-10) 7(0,-12) 8(0,-14) 9(0,-16) 10(0,-18) 11(0,-20) 12(0,-22) 13(0,-24) 14(0,-26) 15(0,-28) 16(0,-30) 17(0,-32) 18(0,-34) 19(0,-36) 20(0,-38) 21(0,-40)
F.SilkS:
  lines w0.254: -1,0 -1,1 0,1 ; 0.917,-40.36 1.39,-40.36 ; 0.917,-39.64 1.39,-39.64 ; 0.917,-38.36 1.39,-38.36 ; 0.917,-37.64 1.39,-37.64 ; 0.917,-36.36 1.39,-36.36 ; 0.917,-35.64 1.39,-35.64 ; 0.917,-34.36 1.39,-34.36 ; 0.917,-33.64 1.39,-33.64 ; 0.917,-32.36 1.39,-32.36 ; 0.917,-31.64 1.39,-31.64 ; 0.917,-30.36 1.39,-30.36 ; 0.917,-29.64 1.39,-29.64 ; 0.917,-28.36 1.39,-28.36 ; 0.917,-27.64 1.39,-27.64 ; 0.917,-26.36 1.39,-26.36 ; 0.917,-25.64 1.39,-25.64 ; 0.917,-24.36 1.39,-24.36 ; 0.917,-23.64 1.39,-23.64 ; 0.917,-22.36 1.39,-22.36 ; 0.917,-21.64 1.39,-21.64 ; 0.917,-20.36 1.39,-20.36 ; 0.917,-19.64 1.39,-19.64 ; 0.917,-18.36 1.39,-18.36 ; 0.917,-17.64 1.39,-17.64 ; 0.917,-16.36 1.39,-16.36 ; 0.917,-15.64 1.39,-15.64 ; 0.917,-14.36 1.39,-14.36 ; 0.917,-13.64 1.39,-13.64 ; 0.917,-12.36 1.39,-12.36 ; 0.917,-11.64 1.39,-11.64 ; 0.917,-10.36 1.39,-10.36 ; 0.917,-9.64 1.39,-9.64 ; 0.917,-8.36 1.39,-8.36 ; 0.917,-7.64 1.39,-7.64 ; 0.917,-6.36 1.39,-6.36 ; 0.917,-5.64 1.39,-5.64 ; 0.917,-4.36 1.39,-4.36 ; 0.917,-3.64 1.39,-3.64 ; 0.917,-2.36 1.39,-2.36 ; 0.917,-1.64 1.39,-1.64 ; 0.985,-0.36 1.39,-0.36 ; 0.985,0.36 1.39,0.36 ; 1.39,-39 3.11,-39 ; 1.39,-37 3.11,-37 ; 1.39,-35 3.11,-35 ; 1.39,-33 3.11,-33 ; 1.39,-31 3.11,-31 ; 1.39,-29 3.11,-29 ; 1.39,-27 3.11,-27 ; 1.39,-25 3.11,-25 ; 1.39,-23 3.11,-23 ; 1.39,-21 3.11,-21 ; 1.39,-19 3.11,-19 ; 1.39,-17 3.11,-17 ; 1.39,-15 3.11,-15 ; 1.39,-13 3.11,-13 ; 1.39,-11 3.11,-11 ; 1.39,-9 3.11,-9 ; 1.39,-7 3.11,-7 ; 1.39,-5 3.11,-5 ; 1.39,-3 3.11,-3 ; 1.39,-1 3.11,-1 ; 3.11,-40.36 7.31,-40.36 7.31,-39.64 3.11,-39.64 ; 3.11,-38.36 7.31,-38.36 7.31,-37.64 3.11,-37.64 ; 3.11,-36.36 7.31,-36.36 7.31,-35.64 3.11,-35.64 ; 3.11,-34.36 7.31,-34.36 7.31,-33.64 3.11,-33.64 ; 3.11,-32.36 7.31,-32.36 7.31,-31.64 3.11,-31.64 ; 3.11,-30.36 7.31,-30.36 7.31,-29.64 3.11,-29.64 ; 3.11,-28.36 7.31,-28.36 7.31,-27.64 3.11,-27.64 ; 3.11,-26.36 7.31,-26.36 7.31,-25.64 3.11,-25.64 ; 3.11,-24.36 7.31,-24.36 7.31,-23.64 3.11,-23.64 ; 3.11,-22.36 7.31,-22.36 7.31,-21.64 3.11,-21.64 ; 3.11,-20.36 7.31,-20.36 7.31,-19.64 3.11,-19.64 ; 3.11,-18.36 7.31,-18.36 7.31,-17.64 3.11,-17.64 ; 3.11,-16.36 7.31,-16.36 7.31,-15.64 3.11,-15.64 ; 3.11,-14.36 7.31,-14.36 7.31,-13.64 3.11,-13.64 ; 3.11,-12.36 7.31,-12.36 7.31,-11.64 3.11,-11.64 ; 3.11,-10.36 7.31,-10.36 7.31,-9.64 3.11,-9.64 ; 3.11,-8.36 7.31,-8.36 7.31,-7.64 3.11,-7.64 ; 3.11,-6.36 7.31,-6.36 7.31,-5.64 3.11,-5.64 ; 3.11,-4.36 7.31,-4.36 7.31,-3.64 3.11,-3.64 ; 3.11,-2.36 7.31,-2.36 7.31,-1.64 3.11,-1.64 ; 1.39,-41.11 3.11,-41.11 3.11,1.11 1.39,1.11 1.39,-41.11 ; 3.11,-0.36 7.31,-0.36 7.31,0.36 3.11,0.36 3.11,-0.36
Top Assembly:
  lines w0.254: 1.5,-40.25 -0.25,-40.25 -0.25,-39.75 1.5,-39.75 ; 1.5,-38.25 -0.25,-38.25 -0.25,-37.75 1.5,-37.75 ; 1.5,-36.25 -0.25,-36.25 -0.25,-35.75 1.5,-35.75 ; 1.5,-34.25 -0.25,-34.25 -0.25,-33.75 1.5,-33.75 ; 1.5,-32.25 -0.25,-32.25 -0.25,-31.75 1.5,-31.75 ; 1.5,-30.25 -0.25,-30.25 -0.25,-29.75 1.5,-29.75 ; 1.5,-28.25 -0.25,-28.25 -0.25,-27.75 1.5,-27.75 ; 1.5,-26.25 -0.25,-26.25 -0.25,-25.75 1.5,-25.75 ; 1.5,-24.25 -0.25,-24.25 -0.25,-23.75 1.5,-23.75 ; 1.5,-22.25 -0.25,-22.25 -0.25,-21.75 1.5,-21.75 ; 1.5,-20.25 -0.25,-20.25 -0.25,-19.75 1.5,-19.75 ; 1.5,-18.25 -0.25,-18.25 -0.25,-17.75 1.5,-17.75 ; 1.5,-16.25 -0.25,-16.25 -0.25,-15.75 1.5,-15.75 ; 1.5,-14.25 -0.25,-14.25 -0.25,-13.75 1.5,-13.75 ; 1.5,-12.25 -0.25,-12.25 -0.25,-11.75 1.5,-11.75 ; 1.5,-10.25 -0.25,-10.25 -0.25,-9.75 1.5,-9.75 ; 1.5,-8.25 -0.25,-8.25 -0.25,-7.75 1.5,-7.75 ; 1.5,-6.25 -0.25,-6.25 -0.25,-5.75 1.5,-5.75 ; 1.5,-4.25 -0.25,-4.25 -0.25,-3.75 1.5,-3.75 ; 1.5,-2.25 -0.25,-2.25 -0.25,-1.75 1.5,-1.75 ; 1.5,-0.25 -0.25,-0.25 -0.25,0.25 1.5,0.25 ; 3,-40.25 7.2,-40.25 7.2,-39.75 3,-39.75 ; 3,-38.25 7.2,-38.25 7.2,-37.75 3,-37.75 ; 3,-36.25 7.2,-36.25 7.2,-35.75 3,-35.75 ; 3,-34.25 7.2,-34.25 7.2,-33.75 3,-33.75 ; 3,-32.25 7.2,-32.25 7.2,-31.75 3,-31.75 ; 3,-30.25 7.2,-30.25 7.2,-29.75 3,-29.75 ; 3,-28.25 7.2,-28.25 7.2,-27.75 3,-27.75 ; 3,-26.25 7.2,-26.25 7.2,-25.75 3,-25.75 ; 3,-24.25 7.2,-24.25 7.2,-23.75 3,-23.75 ; 3,-22.25 7.2,-22.25 7.2,-21.75 3,-21.75 ; 3,-20.25 7.2,-20.25 7.2,-19.75 3,-19.75 ; 3,-18.25 7.2,-18.25 7.2,-17.75 3,-17.75 ; 3,-16.25 7.2,-16.25 7.2,-15.75 3,-15.75 ; 3,-14.25 7.2,-14.25 7.2,-13.75 3,-13.75 ; 3,-12.25 7.2,-12.25 7.2,-11.75 3,-11.75 ; 3,-10.25 7.2,-10.25 7.2,-9.75 3,-9.75 ; 3,-8.25 7.2,-8.25 7.2,-7.75 3,-7.75 ; 3,-6.25 7.2,-6.25 7.2,-5.75 3,-5.75 ; 3,-4.25 7.2,-4.25 7.2,-3.75 3,-3.75 ; 3,-2.25 7.2,-2.25 7.2,-1.75 3,-1.75 ; 3,-0.25 7.2,-0.25 7.2,0.25 3,0.25 ; 1.5,-41 3,-41 3,1 1.875,1 1.5,0.625 1.5,-41
  text "'.Designator'" at 3.006,-23.642 h0.9
Top Courtyard:
  lines w0.254: -1.5,-41.5 7.7,-41.5 7.7,1.5 -1.5,1.5 -1.5,-41.5
Top Designator:
  text ".Designator" at -4.518,-20.508 h1.52

## PinHeader_1x21_P2.00mm_Vertical [mm]
pads (21):
  rect 1.35x1.35 hole 0.8: 1(0,0)
  round 1.35 hole 0.8: 2(0,-2) 3(0,-4) 4(0,-6) 5(0,-8) 6(0,-10) 7(0,-12) 8(0,-14) 9(0,-16) 10(0,-18) 11(0,-20) 12(0,-22) 13(0,-24) 14(0,-26) 15(0,-28) 16(0,-30) 17(0,-32) 18(0,-34) 19(0,-36) 20(0,-38) 21(0,-40)
F.SilkS:
  lines w0.254: -1.11,0 -1.11,1.11 0,1.11 ; -1.11,-41.11 1.11,-41.11 1.11,-1 -1.11,-1 -1.11,-41.11
Top Assembly:
  lines w0.254: -1,-41 1,-41 1,1 -0.5,1 -1,0.5 -1,-41
  text "'.Designator'" at 0.84,-24.047 h1
Top Courtyard:
  lines w0.254: -1.5,-41.5 1.5,-41.5 1.5,1.5 -1.5,1.5 -1.5,-41.5
Top Designator:
  text ".Designator" at -7.618,-20.508 h1.52